# Altium schematic symbol library GRM21BR61A226ME44L.SchLib: 1 symbol
Pins are listed as number, name and electrical type; pins without a type are passive.

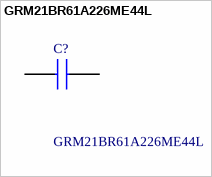
[diagram p0: symbol GRM21BR61A226ME44L]

## GRM21BR61A226ME44L
designator C?
Murata 2012 GRM 22000nF Ceramic Multilayer Capacitor, 10 V dc, +85C, X5R Dielectric, +/-20%; Manufacturer_Name: Murata Electronics; Geometry.Height: 1.45mm; Manufacturer_Part_Number: GRM21BR61A226ME44L; Mouser Part Number: 81-GRM21BR61A226ME4L; Mouser Price/Stock: https://www.mouser.co.uk/ProductDetail/Murata-Electronics/GRM21BR61A226ME44L?qs=eeBpzGFlv%252B8tSfxib2AMhw%3D%3D; Arrow Part Number: GRM21BR61A226ME44L; Arrow Price/Stock: https://www.arrow.com/en/products/grm21br61a226me44l/murata-manufacturing?region=nac; Datasheet Link: http://www.murata.com/~/media/webrenewal/support/library/catalog/products/capacitor/mlcc/c02e.pdf
footprint CAPC2012X145N
pins: 1, 2